# Altium footprint library USB connectors.PcbLib: 10 footprints
Each footprint in its own frame and in the unit in brackets; x right, y up, seen from the top. Pads: shape width x height; smd on the part's side, far side on the other; paste and mask are expansions set on the pad; w line width, h text height; cw(c..) or ccw(c..) is an arc to the next point about the centre after c.
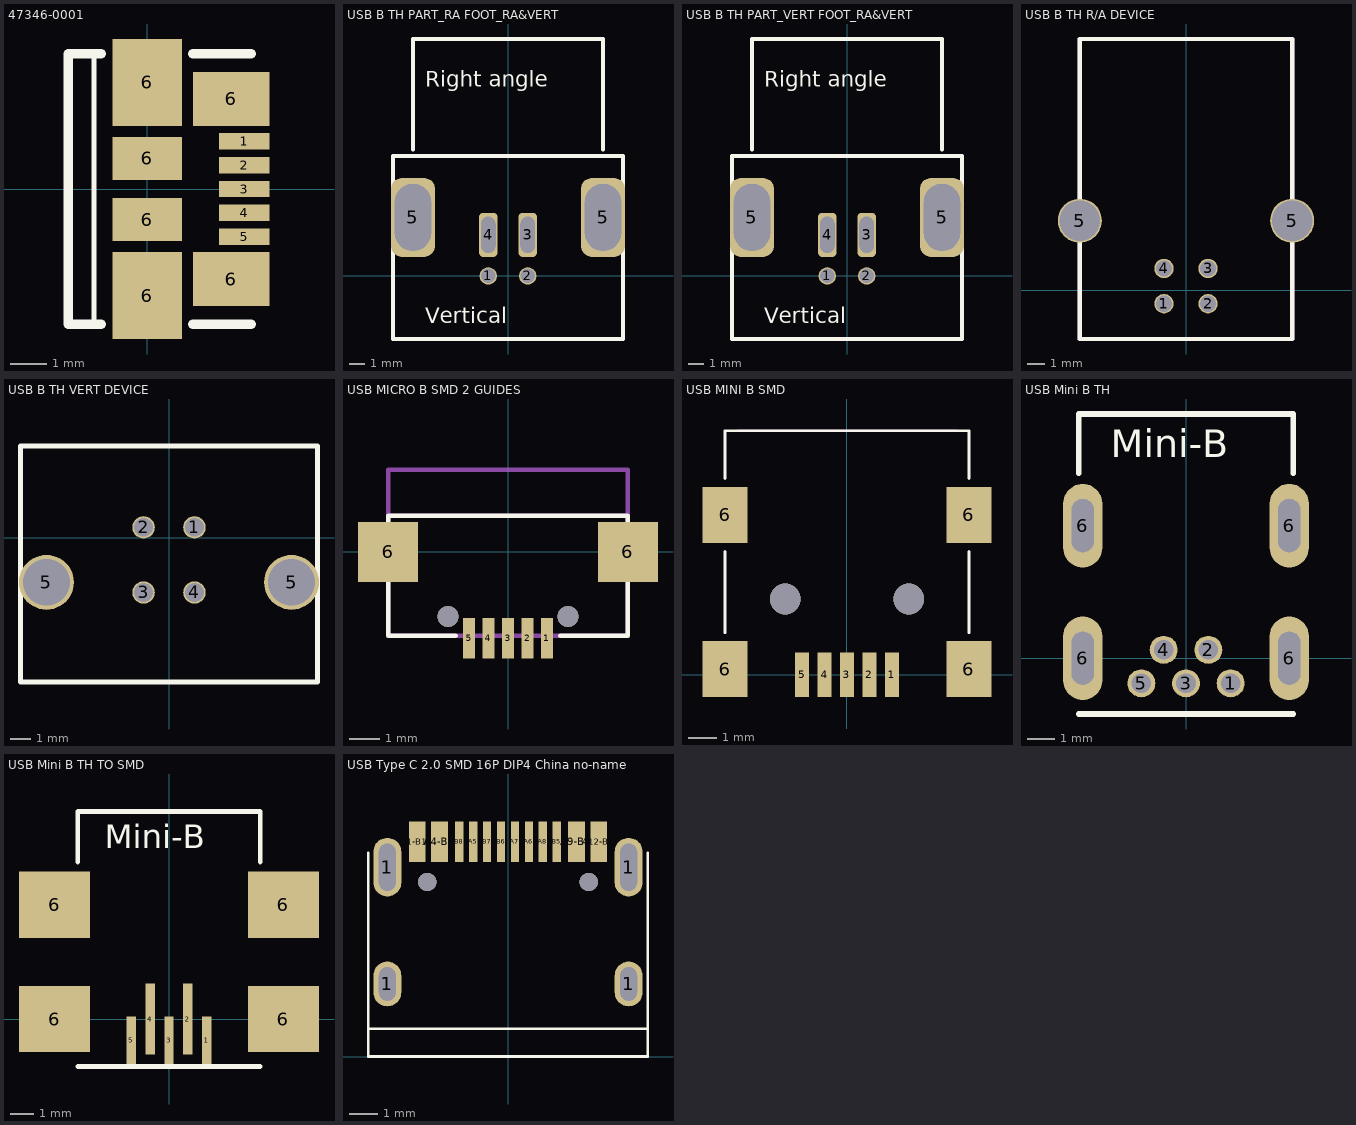
[diagram p0: the footprints below, top view; thin cyan lines are the x and y axes]

## 47346-0001 [mm] "USB MICRO B RA SMD MOLEX"
height 2.45
pads (11):
  rect 1.38x0.45 smd: 1(2.66,1.3) 2(2.66,0.65) 3(2.66,0) 4(2.66,-0.65) 5(2.66,-1.3)
  rect 1.9x2.375 smd: 6(0,-2.913) 6(0,2.913)
  rect 1.9x1.175 smd: 6(0,-0.837) 6(0,0.837)
  rect 2.1x1.475 smd: 6(2.3,-2.462) 6(2.3,2.462)
Top Overlay:
  lines w0.127: -1.45,-3.7 -1.45,3.7
  lines w0.254: -1.25,-3.7 -2.15,-3.7 -2.15,3.7 -1.25,3.7 ; 1.25,-3.7 2.85,-3.7 ; 1.25,3.7 2.85,3.7
3D body "473460001.stp": height 2.72, standoff -0.22, extent -2.15,-3.99 3.28,3.99

## USB B TH PART_RA FOOT_RA&VERT [mm] "Right angle part, footrpint is for right angled and vertical parts."
pads (6):
  round 1.1 hole 0.92: 1(-1.25,0) 2(1.25,0)
  rrect50% 1.2x2.8 hole 0.92 slot 2.3 at 90 deg: 3(1.25,2.6) 4(-1.25,2.6)
  rrect50% 2.8x5 hole 2.3 slot 4.25 at 90 deg: 5(-6.02,3.705) 5(6.02,3.705)
Top Overlay:
  lines w0.254: -6.02,8 -6.02,15.01 6.02,15.01 6.02,8 ; -7.3,-4 -7.3,7.6 7.3,7.6 7.3,-4 -7.3,-4
  text "Vertical" at -5.25,-3 h1
  text "Right angle" at -5.25,12 h1
3D body "Samtec - USB-B-S-X-W-TH.STEP": height 11, standoff -3.64, extent -7.398,-1.391 7.4,15.109

## USB B TH PART_VERT FOOT_RA&VERT [mm] "Vertical part, footrpint is for right angled and vertical parts."
pads (6):
  round 1.1 hole 0.92: 1(-1.25,0) 2(1.25,0)
  rrect50% 1.2x2.8 hole 0.92 slot 2.3 at 90 deg: 3(1.25,2.6) 4(-1.25,2.6)
  rrect50% 2.8x5 hole 2.3 slot 4.25 at 90 deg: 5(-6.02,3.705) 5(6.02,3.705)
Top Overlay:
  lines w0.254: -6.02,8 -6.02,15.01 6.02,15.01 6.02,8 ; -7.3,-4 7.3,-4 7.3,7.6 -7.3,7.6 -7.3,-4
  text "Right angle" at -5.25,12 h1
  text "Vertical" at -5.25,-3 h1
3D body "mouser_806-kusbvx-bs1n-b.STEP": height 16.1, standoff -3.7, extent -7.146,-3.8 7.146,7.5

## USB B TH R/A DEVICE [mm] "USB Type B Device Right Angle Socket TH"
height 11
pads (6):
  round 1.1 hole 0.92: 1(-1.25,-0.75) 2(1.25,-0.75) 3(1.25,1.25) 4(-1.25,1.25)
  round 2.5 hole 2.3: 5(-6.02,3.96) 5(6.02,3.96)
Top Overlay:
  lines w0.254: -6.02,-2.75 -6.02,14.26 6.02,14.26 6.02,-2.75 -6.02,-2.75
Mechanical 13:
  lines w0.254: -6.02,-2.75 6.02,-2.75 6.02,14.26 -6.02,14.26 -6.02,-2.75
3D body "Samtec - USB-B-S-X-W-TH.STEP": height 11, standoff -3.64, extent -7.398,-2.141 7.4,14.359

## USB B TH VERT DEVICE [mm] "USB Type B Device Vertical Socket TH"
height 16.1
pads (6):
  round 1.1 hole 0.92: 1(1.25,0.5) 2(-1.25,0.5) 3(-1.25,-2.7) 4(1.25,-2.7)
  round 2.7 hole 2.3: 5(-6.02,-2.2) 5(6.02,-2.2)
Top Overlay:
  lines w0.254: -7.3,-7.1 7.3,-7.1 7.3,4.5 -7.3,4.5 -7.3,-7.1
3D body "mouser_806-kusbvx-bs1n-b.STEP": height 16.1, standoff -3.7, extent -7.146,-7 7.146,4.3

## USB MICRO B SMD 2 GUIDES [mm]
pads (7):
  rect 0.4x1.35 smd: 1(1.3,-2.875) 2(0.65,-2.875) 3(0,-2.875) 4(-0.65,-2.875) 5(-1.3,-2.875)
  rect 2x2 smd: 6(-4,0) 6(4,0)
via -2,-2.15 diameter 0.7 hole 0.7
via 2,-2.15 diameter 0.7 hole 0.7
Top Overlay:
  lines w0.15: -1.75,-2.8 -4,-2.8 -4,1.2 4,1.2 4,-2.8 1.75,-2.8
Mechanical 13:
  lines w0.15: -4,1.2 4,1.2 ; -4,-2.8 4,-2.8 4,2.74 -4,2.74 -4,-2.8

## USB MINI B SMD [mm] "USB Mini B Surface Mount"
height 3.95
pads (9):
  rect 0.5x1.6 smd: 1(1.6,0) 2(0.8,0) 3(0,0) 4(-0.8,0) 5(-1.6,0)
  rect 1.6x2 smd: 6(-4.35,0.2) 6(-4.35,5.7) 6(4.35,0.2) 6(4.35,5.7)
via -2.2,2.7 diameter 1.1 hole 1.1
via 2.2,2.7 diameter 1.1 hole 1.1
Top Overlay:
  lines w0.1: -4.35,1.5 -4.35,4.4 ; -4.35,7 -4.35,8.7 4.35,8.7 4.35,7 ; 4.35,1.5 4.35,4.4
Mechanical 1:
  lines w0.1: -3.9,8.7 3.9,8.7

## USB Mini B TH [mm] "USB Mini B Trough Hole"
height 4
pads (9):
  round 1 hole 0.7: 1(1.6,-0.9) 2(0.8,0.3) 3(0,-0.9) 4(-0.8,0.3) 5(-1.6,-0.9)
  oval 1.4x3 hole 0.8 slot 1.9 at 90 deg: 6(-3.7,0) 6(-3.7,4.75) 6(3.7,0) 6(3.7,4.75)
Top Overlay:
  lines w0.2: -3.85,-2 0,-2 3.85,-2 ; -3.85,6.625 -3.85,8.75 0,8.75 3.85,8.75 3.85,6.625
  text "Mini-B" at -2.7,7.2 h1

## USB Mini B TH TO SMD [mm] "USB Mini B Trough Hole TO SMD"
height 4
pads (9):
  rect 0.4x2 smd: 1(1.6,-0.9) 3(0,-0.9) 5(-1.6,-0.9)
  rect 0.4x3 smd: 2(0.8,0) 4(-0.8,0)
  rect 3x2.8 smd: 6(-4.826,0) 6(-4.826,4.826) 6(4.826,0) 6(4.826,4.826)
Top Overlay:
  lines w0.2: -3.85,-2 0,-2 3.85,-2 ; -3.85,6.625 -3.85,8.75 0,8.75 3.85,8.75 3.85,6.625
  text "Mini-B" at -2.7,7.2 h1

## USB Type C 2.0 SMD 16P DIP4 China no-name [mm] "USB Type C 2.0 SMD 16P DIP4"
height 3.28
pads (16):
  oval 1x1.6 hole 0.6 slot 1.2 at 90 deg: 1(-4.32,2.6) 1(4.32,2.6)
  oval 1x2.1 hole 0.6 slot 1.7 at 90 deg: 1(-4.32,6.78) 1(4.32,6.78)
  rect 0.6x1.45 smd: A1-B12(-3.25,7.695) A4-B9(-2.45,7.695) A9-B4(2.45,7.695) A12-B1(3.25,7.695)
  rect 0.3x1.45 smd: A5(-1.25,7.695) A6(0.75,7.695) A7(0.25,7.695) A8(1.25,7.695) B5(1.75,7.695) B6(-0.25,7.695) B7(-0.75,7.695) B8(-1.75,7.695)
via -2.89,6.25 diameter 0.65 hole 0.65
via 2.89,6.25 diameter 0.65 hole 0.65
Top Overlay:
  lines w0.1: -5,1 5,1 ; -5,7.3 -5,0 5,0 5,7.3